# EAGLE library part MPS2112 (library SomUSB2)
Monolithic Power Systems Inc. MP2122GJ-Z $2.51 IC REG BUCK ADJ 2A DL SYNC Buck Switching Regulator IC Positive Adjustable 0.608V 2 Output 2A SOT-23-8 Thin, TSOT-23-8 https://www.digikey.com/product-detail/en/monolithic-power-systems-inc/MP2122GJ-Z/1589-1872-1-ND/5291939
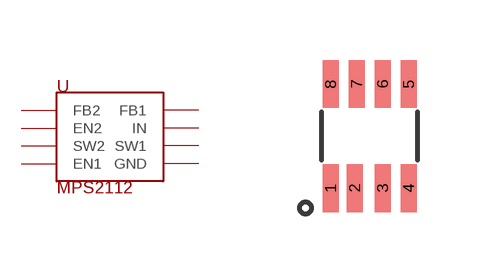
[diagram p0: symbol with the pads of TSOT23-8-MPS; footprint TSOT23-8-MPS]

Designator prefix U

## MPS2112 (VALUE: MP2122)  [TSOT23-8-MPS]
1  FB2  in
2  EN2  in
3  SW2  out
4  EN1  in
5  GND  pas
6  SW1  out
7  IN  in
8  FB1  in

## Footprint TSOT23-8-MPS (pad centres in mm)
smd 0.4 x 1.2: 1 -0.975,-1.3; 2 -0.375,-1.3; 3 0.325,-1.3; 4 0.975,-1.3; 5 0.975,1.3; 6 0.325,1.3; 7 -0.325,1.3; 8 -0.975,1.3